# Altium schematic symbol library Components - 08.10.24 - 15.20.SchLib: 1 symbol
Pins are listed as number, name and electrical type; pins without a type are passive.

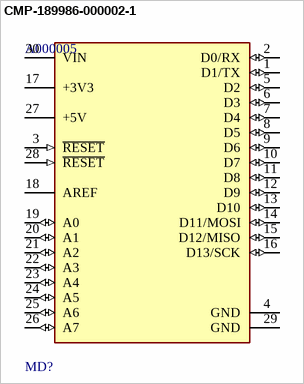
[diagram p0: symbol CMP-189986-000002-1]

## CMP-189986-000002-1
designator MD?, comment A000005
ARDUINO NANO ATMEGA328 EVAL BRD; Number of Bits: 8; Evaluation Kit: Yes; Operating Supply Voltage: 12V; Interface: I2C; Data Bus Width: 8b; Core Architecture: AVR; Packaging: Bulk; Length: 7inch; Package Quantity: 50; Width: 5inch; REACH SVHC: No SVHC; Weight: 0.358383oz; Series: AVR® ATmega; Height: 0.25inch
footprint FP-A000005-MFG
pins: 1 D1/TX (io), 2 D0/RX (io), 3 ~{RESET} (in), 4 GND (power), 5 D2 (io), 6 D3 (io), 7 D4 (io), 8 D5 (io), 9 D6 (io), 10 D7 (io), 11 D8 (io), 12 D9 (io), 13 D10 (io), 14 D11/MOSI (io), 15 D12/MISO (io), 16 D13/SCK (io), 17 +3V3 (power), 18 AREF, 19 A0 (io), 20 A1 (io), 21 A2 (io), 22 A3 (io), 23 A4 (io), 24 A5 (io), 25 A6 (io), 26 A7 (io), 27 +5V (power), 28 ~{RESET} (in), 29 GND (power), 30 VIN (power)